# Altium schematic symbol library Optocouplers.SchLib: 6 symbols
Pins are listed as number, name and electrical type; pins without a type are passive.

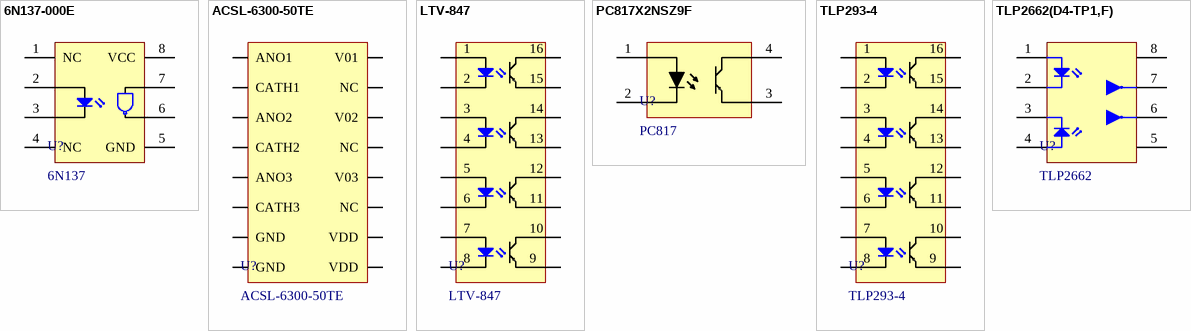
[diagram p0: symbols 6N137-000E to TLP2662(D4-TP1,F)]

## 6N137-000E
designator U?, comment 6N137
OPTOISO 3.75KV 1CH OPN COLL 8DIP; Manufacturer: Broadcom Avago; Manufacturer Part Number: 6N137-000E; Data Rate-Nom: 10MBps; Forward Current: 20mA; Number of Elements: 1; On-State Current-Max: 50mA; Optoelectronic Device Type: LOGIC IC OUTPUT OPTOCOUPLER; Max Power Dissipation: 85mW; Response Time-Nom: 5E-08ns; Min Supply Voltage: 4.5V; Nominal Supply Voltage: 5V; Supplier: Digikey; Supplier Part Number: 516-1521-5-ND; RoHS: Yes; Category: Optocouplers; Stock: 7225; Pricing: 1=1.87, 50=1.1816, 100=0.8745, 500=0.80356, 1000=0.66175, 2000=0.62867, 5000=0.61448, 10000=0.6003 (USD); Mounting Technology: Through Hole; Terminal Finish: Tin; Min Operating Temperature: -40°C; Max Operating Temperature: 85°C; JESD-609 Code: e3; Isolation Voltage-Max: 3.75kV; Reach SVHC Compliant: Yes; RoHS Compliant: Yes; ComponentLink1URL: https://datasheet.ciiva.com:443/pdfs/VipMasterIC/IC/AVGO/AVGO-S-A0007984507/AVGO-S-A0007984507-1.pdf?src-supplier=IHS+Markit; ComponentLink1Description: https://datasheet.ciiva.com:443/pdfs/VipMasterIC/IC/AVGO/AVGO-S-A0007984507/AVGO-S-A0007984507-1.pdf?src-supplier=IHS+Markit; ComponentLink2URL: https://datasheet.ciiva.com/15119/getdatasheetpartid-112677-15119662.pdf?src-supplier=Verical; ComponentLink2Description: https://datasheet.ciiva.com/15119/getdatasheetpartid-112677-15119662.pdf?src-supplier=Verical; ComponentLink3URL: https://datasheet.ciiva.com/27052/1548131-27052460.pdf?src-supplier=Jameco; ComponentLink3Description: https://datasheet.ciiva.com/27052/1548131-27052460.pdf?src-supplier=Jameco; ComponentLink4URL: https://datasheet.ciiva.com/1247/1266214-1247153.pdf?src-supplier=Element14; ComponentLink4Description: https://datasheet.ciiva.com/1247/1266214-1247153.pdf?src-supplier=Element14; ComponentLink5URL: https://datasheet.ciiva.com/14092/6n137-hcnw-hcpl-eng-tds-14092333.pdf?src-supplier=Distrelec; ComponentLink5Description: https://datasheet.ciiva.com/14092/6n137-hcnw-hcpl-eng-tds-14092333.pdf?src-supplier=Distrelec
footprint DIP-8 (DIP, 8-Leads, Body 10.16x6.85mm, Pitch 2.54mm)
pins: 1 NC, 2 A, 3 C, 4 NC, 5 GND, 6 ~{VO}, 7 VE, 8 VCC

## ACSL-6300-50TE
designator U?
OPTOISO 2.5KV 3CH OPEN COLL 16SO; Manufacturer: Broadcom Avago; Data Rate-Nom: 15MBps; Forward Current: 15mA; Number of Elements: 3; On-State Current-Max: 50mA; Optoelectronic Device Type: LOGIC IC OUTPUT OPTOCOUPLER; Max Power Dissipation: 195mW; Response Time-Nom: 1E-07ns; Min Supply Voltage: 3V; Nominal Supply Voltage: 5.5V; Supplier: Digikey; Supplier Part Number: 516-2221-1-ND; Manufacturer Part Number: ACSL-6300-50TE; RoHS: Yes; Category: Optocouplers; Stock: 664; Pricing: 1=6.72, 10=4.751, 100=3.7399, 500=3.34032 (USD); Mounting Technology: Surface Mount; Terminal Finish: Tin; Min Operating Temperature: -40°C; Max Operating Temperature: 100°C; JESD-609 Code: e3; Isolation Voltage-Max: 2.5kV; Reach SVHC Compliant: Yes; RoHS Compliant: Yes; ComponentLink1URL: https://datasheet.ciiva.com:443/pdfs/VipMasterIC/IC/AVGO/AVGO-S-A0006247987/AVGO-S-A0006247987-1.pdf?src-supplier=IHS+Markit; ComponentLink1Description: https://datasheet.ciiva.com:443/pdfs/VipMasterIC/IC/AVGO/AVGO-S-A0006247987/AVGO-S-A0006247987-1.pdf?src-supplier=IHS+Markit; ComponentLink2URL: http://components.arrow.com/part/dataview/41921233S8355849N7786?src-supplier=Arrow+Electronics; ComponentLink2Description: http://components.arrow.com/part/dataview/41921233S8355849N7786?src-supplier=Arrow+Electronics; ComponentLink3URL: https://docs.broadcom.com/docs/AV02-0235EN?src-supplier=Digikey; ComponentLink3Description: https://docs.broadcom.com/docs/AV02-0235EN?src-supplier=Digikey; ComponentLink4URL: http://www.avagotech.com/docs/AV02-0235EN?src-supplier=Avnet; ComponentLink4Description: http://www.avagotech.com/docs/AV02-0235EN?src-supplier=Avnet; ComponentLink5URL: http://www.avagotech.com/search/results.jsp?src=&siteCriteria=ACSL6300&src-supplier=Mouser; ComponentLink5Description: http://www.avagotech.com/search/results.jsp?src=&siteCriteria=ACSL6300&src-supplier=Mouser; LCSC Part Number: C6800668
footprint 16-SOIC_3MM90W
pins: 1 ANO1, 2 CATH1, 3 ANO2, 4 CATH2, 5 ANO3, 6 CATH3, 7 NC, 8 NC, 9 GND, 10 VDD, 11 NC, 12 V03, 13 V02, 14 V01, 15 VDD, 16 GND

## LTV-847
designator U?
OPTOISOLTR 5KV 4CH TRANS 16-DIP; Manufacturer: Vishay Lite-On; Coll-emtr Bkdn Voltage-Min: 35V; Current Transfer Ratio-Nom: 50%; Dark Current-Max: 100nA; Forward Current: 50mA; Number of Elements: 4; Optoelectronic Device Type: TRANSISTOR OUTPUT OPTOCOUPLER; Supplier: Digikey; Supplier Part Number: 160-1370-5-ND; Manufacturer Part Number: LTV-847; RoHS: Yes; Category: Optocouplers; Stock: 1153; Pricing: 1=1, 25=0.6312, 100=0.4671, 500=0.42924, 1000=0.3535, 2000=0.33583, 5000=0.32825, 10000=0.32068, 25000=0.31562 (USD); Terminal Finish: Tin; Min Operating Temperature: -30°C; Max Operating Temperature: 100°C; JESD-609 Code: e3; Isolation Voltage-Max: 5kV; Reach SVHC Compliant: Yes; RoHS Compliant: Yes; ComponentLink1URL: https://datasheet.ciiva.com:443/pdfs/VipMasterIC/IC/LITE/LITE-S-A0001221732/LITE-S-A0001221732-1.pdf?src-supplier=IHS+Markit; ComponentLink1Description: https://datasheet.ciiva.com:443/pdfs/VipMasterIC/IC/LITE/LITE-S-A0001221732/LITE-S-A0001221732-1.pdf?src-supplier=IHS+Markit; ComponentLink2URL: https://datasheet.ciiva.com/11771/0900766b80de6da2-11771904.pdf?src-supplier=Rs; ComponentLink2Description: https://datasheet.ciiva.com/11771/0900766b80de6da2-11771904.pdf?src-supplier=Rs; ComponentLink3URL: https://datasheet.ciiva.com/19453/878286-19453492.pdf?src-supplier=Jameco; ComponentLink3Description: https://datasheet.ciiva.com/19453/878286-19453492.pdf?src-supplier=Jameco; ComponentLink4URL: https://datasheet.ciiva.com/15118/getdatasheetpartid-103697-15118589.pdf?src-supplier=Verical; ComponentLink4Description: https://datasheet.ciiva.com/15118/getdatasheetpartid-103697-15118589.pdf?src-supplier=Verical; ComponentLink5URL: https://datasheet.ciiva.com/26330/187020-da-01-en-pc-847-4-x-pc-817-26330086.pdf?src-supplier=Conrad; ComponentLink5Description: https://datasheet.ciiva.com/26330/187020-da-01-en-pc-847-4-x-pc-817-26330086.pdf?src-supplier=Conrad; ComponentLink6URL: https://datasheet.ciiva.com/2086/s-110-ltv-817827847m-s-s-ta-s-ta1-s-tpseries-2086407.pdf?src-supplier=Digikey; ComponentLink6Description: https://datasheet.ciiva.com/2086/s-110-ltv-817827847m-s-s-ta-s-ta1-s-tpseries-2086407.pdf?src-supplier=Digikey; ComponentLink7URL: https://datasheet.ciiva.com/16396/lite-onltv-847-16396023.pdf?src-supplier=Future+Electronics; ComponentLink7Description: https://datasheet.ciiva.com/16396/lite-onltv-847-16396023.pdf?src-supplier=Future+Electronics
footprint 16-DIP-7_62mm
pins: 1, 2, 3, 4, 5, 6, 7, 8, 9, 10, 11, 12, 13, 14, 15, 16

## PC817X2NSZ9F
designator U?, comment PC817
PHOTOCOUPLER; Manufacturer: Socle Technology; Manufacturer Part Number: PC817X2NSZ9F; Supplier: Digikey; Supplier Part Number: PC817X2NSZ9F-ND; RoHS: No; Pricing: 1=0.36, 10=0.236, 100=0.1577, 500=0.10908, 1000=0.0909, 2000=0.08181, 5000=0.07726, 10000=0.07045, 25000=0.0659 (USD)
footprint DIP-4
pins: 1, 2, 3, 4

## TLP293-4
designator U?
OPTOISO 3.75KV 4CH TRANS 16-SO; Manufacturer: Toshiba; Manufacturer Part Number: TLP293-4(TP,E; Description: Optocoupler Quad Open Collector-OUT 3.75kVrms 16-Pin SOIC Emboss T/R; Collector Emitter Breakdown Voltage: 80V; Collector Emitter Saturation Voltage: 300mV; Current Transfer Ratio: 50%; Dark Current: 80nA; Forward Current: 50mA; Forward Voltage: 1.4V; Max Junction Temperature (Tj): 125°C; Max Power Dissipation: 100mW; Number of Channels: 4; Turn-Off Delay Time: 3µs; Supplier: DigiKey; Supplier Part Number: TLP293-4(TPECT-ND; RoHS: Compliant; Category: Optocouplers; Stock: 42408; Pricing: 1=1.54, 10=1.093, 100=0.8233, 500=0.704, 1000=0.66505 (USD); Case/Package: SOIC; Collector Emitter Voltage (VCEO): 300mV; Height: 2.3mm; Isolation Voltage: 3.75kV; Lifecycle Status: Production; Max Operating Temperature: 125°C; Max Output Voltage: 80V; Min Operating Temperature: -55°C; Mounting Technology: Surface Mount; Number of Elements: 4; Pins: 16; Output Current per Channel: 50mA; Packaging: Tape & Reel (TR); REACH SVHC: Yes; Schedule B: 8541408000, 8541408000|8541408000|8541408000|8541408000|8541408000; Turn-On Delay Time: 3µs; ComponentLink1URL: https://datasheet.octopart.com:443/TLP293-4%28TP%2CE-Toshiba-datasheet-165584699.pdf?src-supplier=IHS; ComponentLink1Description: https://datasheet.octopart.com:443/TLP293-4%28TP%2CE-Toshiba-datasheet-165584699.pdf?src-supplier=IHS; ComponentLink2URL: https://datasheet.octopart.com:443/TLP293-4%28TP%2CE-Toshiba-datasheet-62096132.pdf?src-supplier=Upverter; ComponentLink2Description: https://datasheet.octopart.com:443/TLP293-4%28TP%2CE-Toshiba-datasheet-62096132.pdf?src-supplier=Upverter
footprint SO-16
pins: 1, 2, 3, 4, 5, 6, 7, 8, 9, 10, 11, 12, 13, 14, 15, 16

## TLP2662(D4-TP1,F)
designator U?, comment TLP2662
HIGH SPEED LOGIC OUTPUT COUPLER;; Manufacturer: Toshiba; Manufacturer Part Number: TLP2662(D4-TP1,F); Optoelectronic Device Type: LOGIC IC OUTPUT OPTOCOUPLER; Supplier: Digikey; Supplier Part Number: 264-TLP2662(D4-TP1,F)CT-ND; RoHS: Yes; Category: Optocouplers; Stock: 1838; Pricing: 1=2.1, 10=1.352, 100=0.9721, 500=0.8224 (USD); RoHS Compliant: Yes; ComponentLink1URL: https://datasheet.ciiva.com:443/pdfs/VipMasterIC/IC/TOSC/TOSC-S-A0001140407/TOSC-S-A0001140407-1.pdf?src-supplier=IHS+Markit; ComponentLink1Description: https://datasheet.ciiva.com:443/pdfs/VipMasterIC/IC/TOSC/TOSC-S-A0001140407/TOSC-S-A0001140407-1.pdf?src-supplier=IHS+Markit
footprint 8-SMD
pins: 1 A, 2 C, 3 C, 4 A, 5 GND, 6 V02, 7 V01, 8 VCC